# EAGLE library part RESISTOR-SIP-100MIL-10 (library greg)
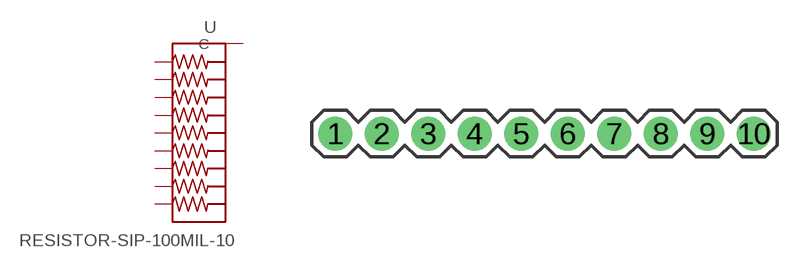
[diagram p29: symbol with the pads of 1X10; footprint 1X10]

Designator prefix -

## RESISTOR-SIP-100MIL-10  [1X10]
1  C  pas
2  1  pas
3  2  pas
4  3  pas
5  4  pas
6  5  pas
7  6  pas
8  7  pas
9  8  pas
10  9  pas

## Footprint 1X10 (pad centres in mm)
Plated Through Hole -10 Pin Specifications: Pin count:10 Pin pitch:0.1" Example device(s): CONN_10
drill 1.016 pad 1.88: 1 0,0; 2 2.54,0; 3 5.08,0; 4 7.62,0; 5 10.16,0; 6 12.7,0; 7 15.24,0; 8 17.78,0; 9 20.32,0; 10 22.86,0